# EAGLE library part COMEXPRESS_S (library etx-board)
ETX Express COM Express Device generated with split-gate-in-device-to-single-gates.ulp from C-5353652-36-3.dev at 04.12.08 14:01:30 with EAGLE Version 5.3.5 Copyright (c) 1988-2008 CadSoft Source: http://catalog.tycoelectronics.com .. ENG_CS_889092_0.5mm_FH_Conn_0906.pdf http://nordic.kontron.com/searchresult/?searchterm=etxe_designguide_v1.4.pdf
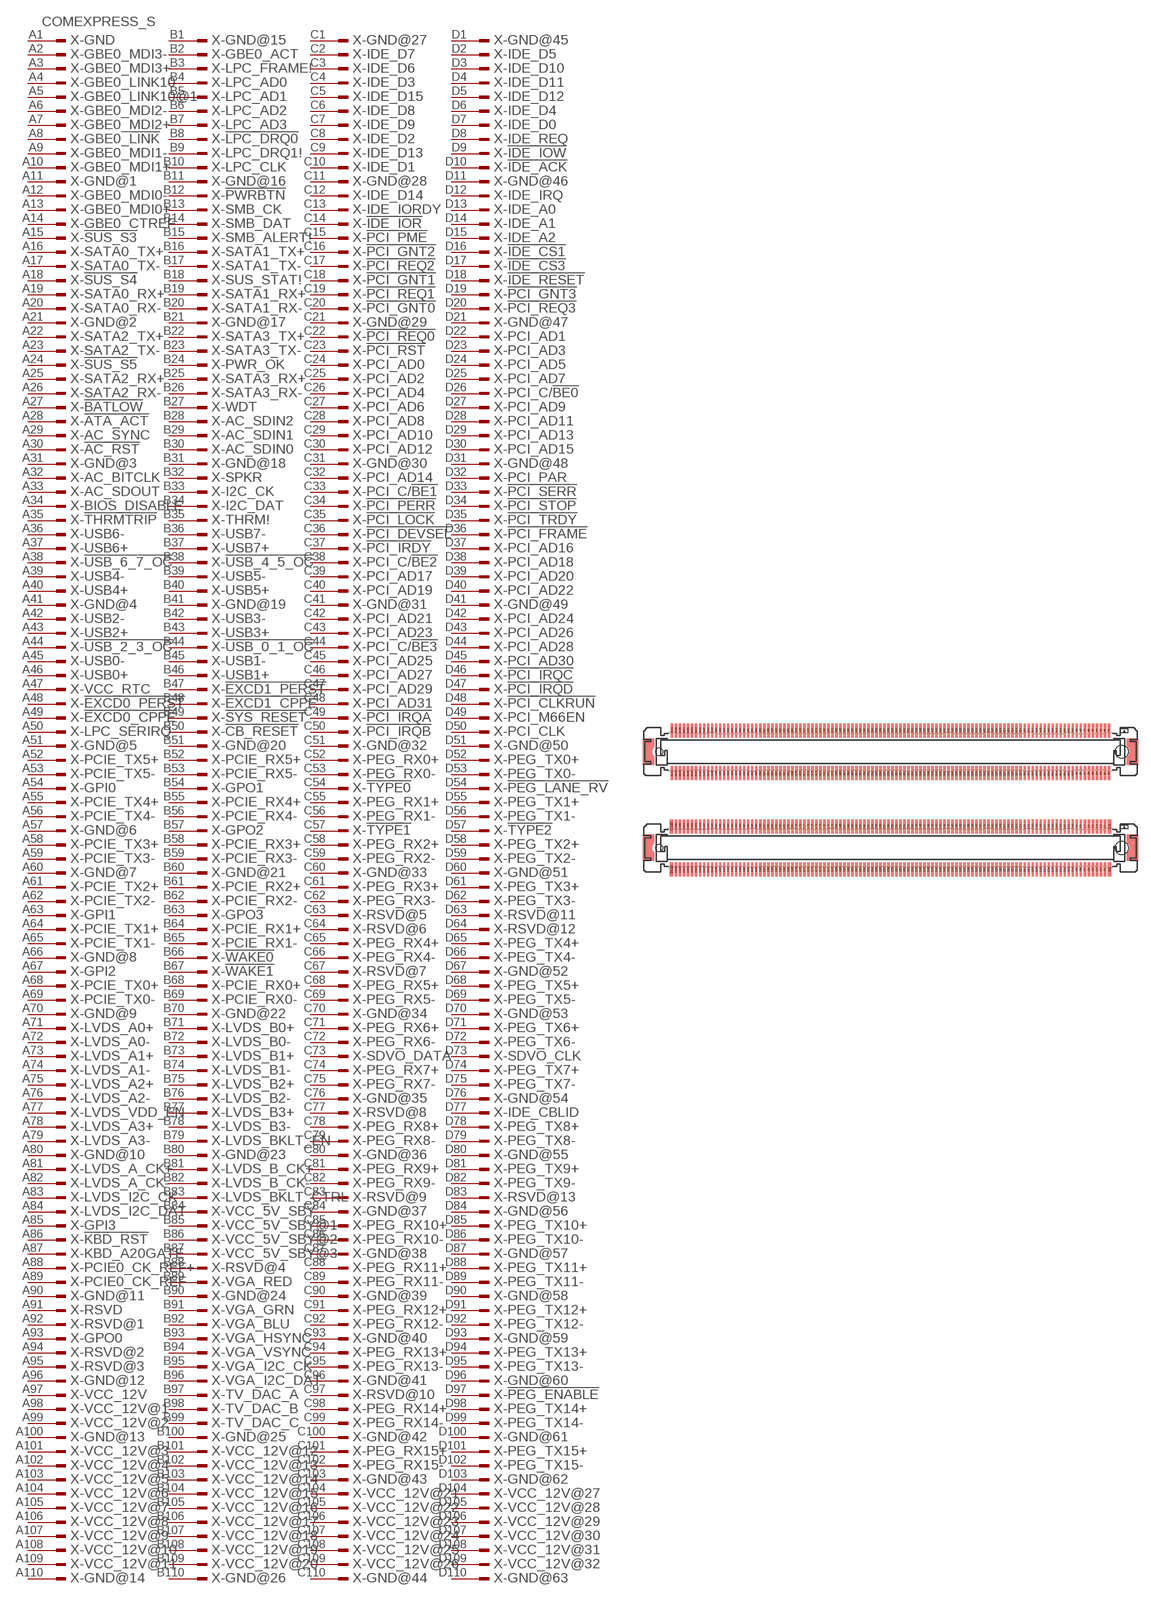
[diagram p6: symbol with the pads of C-5353652-36-3; footprint C-5353652-36-3]

Designator prefix X; gates -GND=1PIN_NAME_VALUE -GBE0_MDI3-=1PIN_NAME -GBE0_MDI3+=1PIN_NAME -GBE0_LINK10=1PIN_NAME -GBE0_LINK10@1=1PIN_NAME -GBE0_MDI2-=1PIN_NAME -GBE0_MDI2+=1PIN_NAME -GBE0_!LINK=1PIN_NAME -GBE0_MDI1-=1PIN_NAME -GBE0_MDI1+=1PIN_NAME -GND@1=1PIN_NAME -GBE0_MDI0-=1PIN_NAME -GBE0_MDI0+=1PIN_NAME -GBE0_CTREF=1PIN_NAME -!SUS_S3=1PIN_NAME -SATA0_TX+=1PIN_NAME -SATA0_TX-=1PIN_NAME -!SUS_S4=1PIN_NAME -SATA0_RX+=1PIN_NAME -SATA0_RX-=1PIN_NAME -GND@2=1PIN_NAME -SATA2_TX+=1PIN_NAME -SATA2_TX-=1PIN_NAME -!SUS_S5=1PIN_NAME -SATA2_RX+=1PIN_NAME -SATA2_RX-=1PIN_NAME -!BATLOW=1PIN_NAME -!ATA_ACT=1PIN_NAME -AC_SYNC=1PIN_NAME -!AC_RST=1PIN_NAME -GND@3=1PIN_NAME -AC_BITCLK=1PIN_NAME -AC_SDOUT=1PIN_NAME -BIOS_DISABLE=1PIN_NAME -!THRMTRIP=1PIN_NAME -USB6-=1PIN_NAME -USB6+=1PIN_NAME -!USB_6_7_OC=1PIN_NAME -USB4-=1PIN_NAME -USB4+=1PIN_NAME -GND@4=1PIN_NAME -USB2-=1PIN_NAME -USB2+=1PIN_NAME -!USB_2_3_OC=1PIN_NAME -USB0-=1PIN_NAME -USB0+=1PIN_NAME -VCC_RTC=1PIN_NAME -!EXCD0_PERST=1PIN_NAME -!EXCD0_CPPE=1PIN_NAME -LPC_SERIRQ=1PIN_NAME -GND@5=1PIN_NAME -PCIE_TX5+=1PIN_NAME -PCIE_TX5-=1PIN_NAME -GPI0=1PIN_NAME -PCIE_TX4+=1PIN_NAME -PCIE_TX4-=1PIN_NAME -GND@6=1PIN_NAME -PCIE_TX3+=1PIN_NAME -PCIE_TX3-=1PIN_NAME -GND@7=1PIN_NAME -PCIE_TX2+=1PIN_NAME -PCIE_TX2-=1PIN_NAME -GPI1=1PIN_NAME -PCIE_TX1+=1PIN_NAME -PCIE_TX1-=1PIN_NAME -GND@8=1PIN_NAME -GPI2=1PIN_NAME -PCIE_TX0+=1PIN_NAME -PCIE_TX0-=1PIN_NAME -GND@9=1PIN_NAME -LVDS_A0+=1PIN_NAME -LVDS_A0-=1PIN_NAME -LVDS_A1+=1PIN_NAME -LVDS_A1-=1PIN_NAME -LVDS_A2+=1PIN_NAME -LVDS_A2-=1PIN_NAME -LVDS_VDD_EN=1PIN_NAME -LVDS_A3+=1PIN_NAME -LVDS_A3-=1PIN_NAME -GND@10=1PIN_NAME -LVDS_A_CK+=1PIN_NAME -LVDS_A_CK-=1PIN_NAME -LVDS_I2C_CK=1PIN_NAME -LVDS_I2C_DAT=1PIN_NAME -GPI3=1PIN_NAME -!KBD_RST=1PIN_NAME -KBD_A20GATE=1PIN_NAME -PCIE0_CK_REF+=1PIN_NAME -PCIE0_CK_REF-=1PIN_NAME -GND@11=1PIN_NAME -RSVD=1PIN_NAME -RSVD@1=1PIN_NAME -GPO0=1PIN_NAME -RSVD@2=1PIN_NAME -RSVD@3=1PIN_NAME -GND@12=1PIN_NAME -VCC_12V=1PIN_NAME -VCC_12V@1=1PIN_NAME -VCC_12V@2=1PIN_NAME -GND@13=1PIN_NAME -VCC_12V@3=1PIN_NAME -VCC_12V@4=1PIN_NAME -VCC_12V@5=1PIN_NAME -VCC_12V@6=1PIN_NAME -VCC_12V@7=1PIN_NAME -VCC_12V@8=1PIN_NAME -VCC_12V@9=1PIN_NAME -VCC_12V@10=1PIN_NAME -VCC_12V@11=1PIN_NAME -GND@14=1PIN_NAME -GND@15=1PIN_NAME -GBE0_ACT=1PIN_NAME -LPC_FRAME!=1PIN_NAME -LPC_AD0=1PIN_NAME -LPC_AD1=1PIN_NAME -LPC_AD2=1PIN_NAME -LPC_AD3=1PIN_NAME -!LPC_DRQ0=1PIN_NAME -LPC_DRQ1!=1PIN_NAME -LPC_CLK=1PIN_NAME -GND@16=1PIN_NAME -!PWRBTN=1PIN_NAME -SMB_CK=1PIN_NAME -SMB_DAT=1PIN_NAME -SMB_ALERT!=1PIN_NAME -SATA1_TX+=1PIN_NAME -SATA1_TX-=1PIN_NAME -SUS_STAT!=1PIN_NAME -SATA1_RX+=1PIN_NAME -SATA1_RX-=1PIN_NAME -GND@17=1PIN_NAME -SATA3_TX+=1PIN_NAME -SATA3_TX-=1PIN_NAME -PWR_OK=1PIN_NAME -SATA3_RX+=1PIN_NAME -SATA3_RX-=1PIN_NAME -WDT=1PIN_NAME -AC_SDIN2=1PIN_NAME -AC_SDIN1=1PIN_NAME -AC_SDIN0=1PIN_NAME -GND@18=1PIN_NAME -SPKR=1PIN_NAME -I2C_CK=1PIN_NAME -I2C_DAT=1PIN_NAME -THRM!=1PIN_NAME -USB7-=1PIN_NAME -USB7+=1PIN_NAME -!USB_4_5_OC=1PIN_NAME -USB5-=1PIN_NAME -USB5+=1PIN_NAME -GND@19=1PIN_NAME -USB3-=1PIN_NAME -USB3+=1PIN_NAME -!USB_0_1_OC=1PIN_NAME -USB1-=1PIN_NAME -USB1+=1PIN_NAME -!EXCD1_PERST=1PIN_NAME -!EXCD1_CPPE=1PIN_NAME -!SYS_RESET=1PIN_NAME -!CB_RESET=1PIN_NAME -GND@20=1PIN_NAME -PCIE_RX5+=1PIN_NAME -PCIE_RX5-=1PIN_NAME -GPO1=1PIN_NAME -PCIE_RX4+=1PIN_NAME -PCIE_RX4-=1PIN_NAME -GPO2=1PIN_NAME -PCIE_RX3+=1PIN_NAME -PCIE_RX3-=1PIN_NAME -GND@21=1PIN_NAME -PCIE_RX2+=1PIN_NAME -PCIE_RX2-=1PIN_NAME -GPO3=1PIN_NAME -PCIE_RX1+=1PIN_NAME -PCIE_RX1-=1PIN_NAME -!WAKE0=1PIN_NAME -!WAKE1=1PIN_NAME -PCIE_RX0+=1PIN_NAME -PCIE_RX0-=1PIN_NAME -GND@22=1PIN_NAME -LVDS_B0+=1PIN_NAME -LVDS_B0-=1PIN_NAME -LVDS_B1+=1PIN_NAME -LVDS_B1-=1PIN_NAME -LVDS_B2+=1PIN_NAME -LVDS_B2-=1PIN_NAME -LVDS_B3+=1PIN_NAME -LVDS_B3-=1PIN_NAME -LVDS_BKLT_EN=1PIN_NAME -GND@23=1PIN_NAME -LVDS_B_CK+=1PIN_NAME -LVDS_B_CK-=1PIN_NAME -LVDS_BKLT_CTRL=1PIN_NAME -VCC_5V_SBY=1PIN_NAME -VCC_5V_SBY@1=1PIN_NAME -VCC_5V_SBY@2=1PIN_NAME -VCC_5V_SBY@3=1PIN_NAME -RSVD@4=1PIN_NAME -VGA_RED=1PIN_NAME -GND@24=1PIN_NAME -VGA_GRN=1PIN_NAME -VGA_BLU=1PIN_NAME -VGA_HSYNC=1PIN_NAME -VGA_VSYNC=1PIN_NAME -VGA_I2C_CK=1PIN_NAME -VGA_I2C_DAT=1PIN_NAME -TV_DAC_A=1PIN_NAME -TV_DAC_B=1PIN_NAME -TV_DAC_C=1PIN_NAME -GND@25=1PIN_NAME -VCC_12V@12=1PIN_NAME -VCC_12V@13=1PIN_NAME -VCC_12V@14=1PIN_NAME -VCC_12V@15=1PIN_NAME -VCC_12V@16=1PIN_NAME -VCC_12V@17=1PIN_NAME -VCC_12V@18=1PIN_NAME -VCC_12V@19=1PIN_NAME -VCC_12V@20=1PIN_NAME -GND@26=1PIN_NAME -GND@27=1PIN_NAME -IDE_D7=1PIN_NAME -IDE_D6=1PIN_NAME -IDE_D3=1PIN_NAME -IDE_D15=1PIN_NAME -IDE_D8=1PIN_NAME -IDE_D9=1PIN_NAME -IDE_D2=1PIN_NAME -IDE_D13=1PIN_NAME -IDE_D1=1PIN_NAME -GND@28=1PIN_NAME -IDE_D14=1PIN_NAME -IDE_IORDY=1PIN_NAME -!IDE_IOR=1PIN_NAME -!PCI_PME=1PIN_NAME -!PCI_GNT2=1PIN_NAME -!PCI_REQ2=1PIN_NAME -!PCI_GNT1=1PIN_NAME -!PCI_REQ1=1PIN_NAME -!PCI_GNT0=1PIN_NAME -GND@29=1PIN_NAME -!PCI_REQ0=1PIN_NAME -!PCI_RST=1PIN_NAME -PCI_AD0=1PIN_NAME -PCI_AD2=1PIN_NAME -PCI_AD4=1PIN_NAME -PCI_AD6=1PIN_NAME -PCI_AD8=1PIN_NAME -PCI_AD10=1PIN_NAME -PCI_AD12=1PIN_NAME -GND@30=1PIN_NAME -PCI_AD14=1PIN_NAME -PCI_C/!BE1=1PIN_NAME -!PCI_PERR=1PIN_NAME -!PCI_LOCK=1PIN_NAME -!PCI_DEVSEL=1PIN_NAME -!PCI_IRDY=1PIN_NAME -PCI_C/!BE2=1PIN_NAME -PCI_AD17=1PIN_NAME -PCI_AD19=1PIN_NAME -GND@31=1PIN_NAME -PCI_AD21=1PIN_NAME -PCI_AD23=1PIN_NAME -PCI_C/!BE3=1PIN_NAME -PCI_AD25=1PIN_NAME -PCI_AD27=1PIN_NAME -PCI_AD29=1PIN_NAME -PCI_AD31=1PIN_NAME -!PCI_IRQA=1PIN_NAME -!PCI_IRQB=1PIN_NAME -GND@32=1PIN_NAME -PEG_RX0+=1PIN_NAME -PEG_RX0-=1PIN_NAME -!TYPE0=1PIN_NAME -PEG_RX1+=1PIN_NAME -PEG_RX1-=1PIN_NAME -!TYPE1=1PIN_NAME -PEG_RX2+=1PIN_NAME -PEG_RX2-=1PIN_NAME -GND@33=1PIN_NAME -PEG_RX3+=1PIN_NAME -PEG_RX3-=1PIN_NAME -RSVD@5=1PIN_NAME -RSVD@6=1PIN_NAME -PEG_RX4+=1PIN_NAME -PEG_RX4-=1PIN_NAME -RSVD@7=1PIN_NAME -PEG_RX5+=1PIN_NAME -PEG_RX5-=1PIN_NAME -GND@34=1PIN_NAME -PEG_RX6+=1PIN_NAME -PEG_RX6-=1PIN_NAME -SDVO_DATA=1PIN_NAME -PEG_RX7+=1PIN_NAME -PEG_RX7-=1PIN_NAME -GND@35=1PIN_NAME -RSVD@8=1PIN_NAME -PEG_RX8+=1PIN_NAME -PEG_RX8-=1PIN_NAME -GND@36=1PIN_NAME -PEG_RX9+=1PIN_NAME -PEG_RX9-=1PIN_NAME -RSVD@9=1PIN_NAME -GND@37=1PIN_NAME -PEG_RX10+=1PIN_NAME -PEG_RX10-=1PIN_NAME -GND@38=1PIN_NAME -PEG_RX11+=1PIN_NAME -PEG_RX11-=1PIN_NAME -GND@39=1PIN_NAME -PEG_RX12+=1PIN_NAME -PEG_RX12-=1PIN_NAME -GND@40=1PIN_NAME -PEG_RX13+=1PIN_NAME -PEG_RX13-=1PIN_NAME -GND@41=1PIN_NAME -RSVD@10=1PIN_NAME -PEG_RX14+=1PIN_NAME -PEG_RX14-=1PIN_NAME -GND@42=1PIN_NAME -PEG_RX15+=1PIN_NAME -PEG_RX15-=1PIN_NAME -GND@43=1PIN_NAME -VCC_12V@21=1PIN_NAME -VCC_12V@22=1PIN_NAME -VCC_12V@23=1PIN_NAME -VCC_12V@24=1PIN_NAME -VCC_12V@25=1PIN_NAME -VCC_12V@26=1PIN_NAME -GND@44=1PIN_NAME -GND@45=1PIN_NAME -IDE_D5=1PIN_NAME -IDE_D10=1PIN_NAME -IDE_D11=1PIN_NAME -IDE_D12=1PIN_NAME -IDE_D4=1PIN_NAME -IDE_D0=1PIN_NAME -IDE_REQ=1PIN_NAME -!IDE_IOW=1PIN_NAME -!IDE_ACK=1PIN_NAME -GND@46=1PIN_NAME -IDE_IRQ=1PIN_NAME -IDE_A0=1PIN_NAME -IDE_A1=1PIN_NAME -IDE_A2=1PIN_NAME -!IDE_CS1=1PIN_NAME -!IDE_CS3=1PIN_NAME -!IDE_RESET=1PIN_NAME -!PCI_GNT3=1PIN_NAME -!PCI_REQ3=1PIN_NAME -GND@47=1PIN_NAME -PCI_AD1=1PIN_NAME -PCI_AD3=1PIN_NAME -PCI_AD5=1PIN_NAME -PCI_AD7=1PIN_NAME -PCI_C/!BE0=1PIN_NAME -PCI_AD9=1PIN_NAME -PCI_AD11=1PIN_NAME -PCI_AD13=1PIN_NAME -PCI_AD15=1PIN_NAME -GND@48=1PIN_NAME -PCI_PAR=1PIN_NAME -!PCI_SERR=1PIN_NAME -!PCI_STOP=1PIN_NAME -!PCI_TRDY=1PIN_NAME -!PCI_FRAME=1PIN_NAME -PCI_AD16=1PIN_NAME -PCI_AD18=1PIN_NAME -PCI_AD20=1PIN_NAME -PCI_AD22=1PIN_NAME -GND@49=1PIN_NAME -PCI_AD24=1PIN_NAME -PCI_AD26=1PIN_NAME -PCI_AD28=1PIN_NAME -PCI_AD30=1PIN_NAME -!PCI_IRQC=1PIN_NAME -!PCI_IRQD=1PIN_NAME -!PCI_CLKRUN=1PIN_NAME -PCI_M66EN=1PIN_NAME -PCI_CLK=1PIN_NAME -GND@50=1PIN_NAME -PEG_TX0+=1PIN_NAME -PEG_TX0-=1PIN_NAME -!PEG_LANE_RV=1PIN_NAME -PEG_TX1+=1PIN_NAME -PEG_TX1-=1PIN_NAME -!TYPE2=1PIN_NAME -PEG_TX2+=1PIN_NAME -PEG_TX2-=1PIN_NAME -GND@51=1PIN_NAME -PEG_TX3+=1PIN_NAME -PEG_TX3-=1PIN_NAME -RSVD@11=1PIN_NAME -RSVD@12=1PIN_NAME -PEG_TX4+=1PIN_NAME -PEG_TX4-=1PIN_NAME -GND@52=1PIN_NAME -PEG_TX5+=1PIN_NAME -PEG_TX5-=1PIN_NAME -GND@53=1PIN_NAME -PEG_TX6+=1PIN_NAME -PEG_TX6-=1PIN_NAME -SDVO_CLK=1PIN_NAME -PEG_TX7+=1PIN_NAME -PEG_TX7-=1PIN_NAME -GND@54=1PIN_NAME -IDE_CBLID=1PIN_NAME -PEG_TX8+=1PIN_NAME -PEG_TX8-=1PIN_NAME -GND@55=1PIN_NAME -PEG_TX9+=1PIN_NAME -PEG_TX9-=1PIN_NAME -RSVD@13=1PIN_NAME -GND@56=1PIN_NAME -PEG_TX10+=1PIN_NAME -PEG_TX10-=1PIN_NAME -GND@57=1PIN_NAME -PEG_TX11+=1PIN_NAME -PEG_TX11-=1PIN_NAME -GND@58=1PIN_NAME -PEG_TX12+=1PIN_NAME -PEG_TX12-=1PIN_NAME -GND@59=1PIN_NAME -PEG_TX13+=1PIN_NAME -PEG_TX13-=1PIN_NAME -GND@60=1PIN_NAME -!PEG_ENABLE=1PIN_NAME -PEG_TX14+=1PIN_NAME -PEG_TX14-=1PIN_NAME -GND@61=1PIN_NAME -PEG_TX15+=1PIN_NAME -PEG_TX15-=1PIN_NAME -GND@62=1PIN_NAME -VCC_12V@27=1PIN_NAME -VCC_12V@28=1PIN_NAME -VCC_12V@29=1PIN_NAME -VCC_12V@30=1PIN_NAME -VCC_12V@31=1PIN_NAME -VCC_12V@32=1PIN_NAME -GND@63=1PIN_NAME

## COMEXPRESS_S  [C-5353652-36-3]
A1  -GND:1  pas
A2  -GBE0_MDI3-:1  pas
A3  -GBE0_MDI3+:1  pas
A4  -GBE0_LINK10:1  pas
A5  -GBE0_LINK10@1:1  pas
A6  -GBE0_MDI2-:1  pas
A7  -GBE0_MDI2+:1  pas
A8  -GBE0_!LINK:1  pas
A9  -GBE0_MDI1-:1  pas
A10  -GBE0_MDI1+:1  pas
A11  -GND@1:1  pas
A12  -GBE0_MDI0-:1  pas
A13  -GBE0_MDI0+:1  pas
A14  -GBE0_CTREF:1  pas
A15  -!SUS_S3:1  pas
A16  -SATA0_TX+:1  pas
A17  -SATA0_TX-:1  pas
A18  -!SUS_S4:1  pas
A19  -SATA0_RX+:1  pas
A20  -SATA0_RX-:1  pas
A21  -GND@2:1  pas
A22  -SATA2_TX+:1  pas
A23  -SATA2_TX-:1  pas
A24  -!SUS_S5:1  pas
A25  -SATA2_RX+:1  pas
A26  -SATA2_RX-:1  pas
A27  -!BATLOW:1  pas
A28  -!ATA_ACT:1  pas
A29  -AC_SYNC:1  pas
A30  -!AC_RST:1  pas
A31  -GND@3:1  pas
A32  -AC_BITCLK:1  pas
A33  -AC_SDOUT:1  pas
A34  -BIOS_DISABLE:1  pas
A35  -!THRMTRIP:1  pas
A36  -USB6-:1  pas
A37  -USB6+:1  pas
A38  -!USB_6_7_OC:1  pas
A39  -USB4-:1  pas
A40  -USB4+:1  pas
A41  -GND@4:1  pas
A42  -USB2-:1  pas
A43  -USB2+:1  pas
A44  -!USB_2_3_OC:1  pas
A45  -USB0-:1  pas
A46  -USB0+:1  pas
A47  -VCC_RTC:1  pas
A48  -!EXCD0_PERST:1  pas
A49  -!EXCD0_CPPE:1  pas
A50  -LPC_SERIRQ:1  pas
A51  -GND@5:1  pas
A52  -PCIE_TX5+:1  pas
A53  -PCIE_TX5-:1  pas
A54  -GPI0:1  pas
A55  -PCIE_TX4+:1  pas
A56  -PCIE_TX4-:1  pas
A57  -GND@6:1  pas
A58  -PCIE_TX3+:1  pas
A59  -PCIE_TX3-:1  pas
A60  -GND@7:1  pas
A61  -PCIE_TX2+:1  pas
A62  -PCIE_TX2-:1  pas
A63  -GPI1:1  pas
A64  -PCIE_TX1+:1  pas
A65  -PCIE_TX1-:1  pas
A66  -GND@8:1  pas
A67  -GPI2:1  pas
A68  -PCIE_TX0+:1  pas
A69  -PCIE_TX0-:1  pas
A70  -GND@9:1  pas
A71  -LVDS_A0+:1  pas
A72  -LVDS_A0-:1  pas
A73  -LVDS_A1+:1  pas
A74  -LVDS_A1-:1  pas
A75  -LVDS_A2+:1  pas
A76  -LVDS_A2-:1  pas
A77  -LVDS_VDD_EN:1  pas
A78  -LVDS_A3+:1  pas
A79  -LVDS_A3-:1  pas
A80  -GND@10:1  pas
A81  -LVDS_A_CK+:1  pas
A82  -LVDS_A_CK-:1  pas
A83  -LVDS_I2C_CK:1  pas
A84  -LVDS_I2C_DAT:1  pas
A85  -GPI3:1  pas
A86  -!KBD_RST:1  pas
A87  -KBD_A20GATE:1  pas
A88  -PCIE0_CK_REF+:1  pas
A89  -PCIE0_CK_REF-:1  pas
A90  -GND@11:1  pas
A91  -RSVD:1  pas
A92  -RSVD@1:1  pas
A93  -GPO0:1  pas
A94  -RSVD@2:1  pas
A95  -RSVD@3:1  pas
A96  -GND@12:1  pas
A97  -VCC_12V:1  pas
A98  -VCC_12V@1:1  pas
A99  -VCC_12V@2:1  pas
A100  -GND@13:1  pas
A101  -VCC_12V@3:1  pas
A102  -VCC_12V@4:1  pas
A103  -VCC_12V@5:1  pas
A104  -VCC_12V@6:1  pas
A105  -VCC_12V@7:1  pas
A106  -VCC_12V@8:1  pas
A107  -VCC_12V@9:1  pas
A108  -VCC_12V@10:1  pas
A109  -VCC_12V@11:1  pas
A110  -GND@14:1  pas
B1  -GND@15:1  pas
B2  -GBE0_ACT:1  pas
B3  -LPC_FRAME!:1  pas
B4  -LPC_AD0:1  pas
B5  -LPC_AD1:1  pas
B6  -LPC_AD2:1  pas
B7  -LPC_AD3:1  pas
B8  -!LPC_DRQ0:1  pas
B9  -LPC_DRQ1!:1  pas
B10  -LPC_CLK:1  pas
B11  -GND@16:1  pas
B12  -!PWRBTN:1  pas
B13  -SMB_CK:1  pas
B14  -SMB_DAT:1  pas
B15  -SMB_ALERT!:1  pas
B16  -SATA1_TX+:1  pas
B17  -SATA1_TX-:1  pas
B18  -SUS_STAT!:1  pas
B19  -SATA1_RX+:1  pas
B20  -SATA1_RX-:1  pas
B21  -GND@17:1  pas
B22  -SATA3_TX+:1  pas
B23  -SATA3_TX-:1  pas
B24  -PWR_OK:1  pas
B25  -SATA3_RX+:1  pas
B26  -SATA3_RX-:1  pas
B27  -WDT:1  pas
B28  -AC_SDIN2:1  pas
B29  -AC_SDIN1:1  pas
B30  -AC_SDIN0:1  pas
B31  -GND@18:1  pas
B32  -SPKR:1  pas
B33  -I2C_CK:1  pas
B34  -I2C_DAT:1  pas
B35  -THRM!:1  pas
B36  -USB7-:1  pas
B37  -USB7+:1  pas
B38  -!USB_4_5_OC:1  pas
B39  -USB5-:1  pas
B40  -USB5+:1  pas
B41  -GND@19:1  pas
B42  -USB3-:1  pas
B43  -USB3+:1  pas
B44  -!USB_0_1_OC:1  pas
B45  -USB1-:1  pas
B46  -USB1+:1  pas
B47  -!EXCD1_PERST:1  pas
B48  -!EXCD1_CPPE:1  pas
B49  -!SYS_RESET:1  pas
B50  -!CB_RESET:1  pas
B51  -GND@20:1  pas
B52  -PCIE_RX5+:1  pas
B53  -PCIE_RX5-:1  pas
B54  -GPO1:1  pas
B55  -PCIE_RX4+:1  pas
B56  -PCIE_RX4-:1  pas
B57  -GPO2:1  pas
B58  -PCIE_RX3+:1  pas
B59  -PCIE_RX3-:1  pas
B60  -GND@21:1  pas
B61  -PCIE_RX2+:1  pas
B62  -PCIE_RX2-:1  pas
B63  -GPO3:1  pas
B64  -PCIE_RX1+:1  pas
B65  -PCIE_RX1-:1  pas
B66  -!WAKE0:1  pas
B67  -!WAKE1:1  pas
B68  -PCIE_RX0+:1  pas
B69  -PCIE_RX0-:1  pas
B70  -GND@22:1  pas
B71  -LVDS_B0+:1  pas
B72  -LVDS_B0-:1  pas
B73  -LVDS_B1+:1  pas
B74  -LVDS_B1-:1  pas
B75  -LVDS_B2+:1  pas
B76  -LVDS_B2-:1  pas
B77  -LVDS_B3+:1  pas
B78  -LVDS_B3-:1  pas
B79  -LVDS_BKLT_EN:1  pas
B80  -GND@23:1  pas
B81  -LVDS_B_CK+:1  pas
B82  -LVDS_B_CK-:1  pas
B83  -LVDS_BKLT_CTRL:1  pas
B84  -VCC_5V_SBY:1  pas
B85  -VCC_5V_SBY@1:1  pas
B86  -VCC_5V_SBY@2:1  pas
B87  -VCC_5V_SBY@3:1  pas
B88  -RSVD@4:1  pas
B89  -VGA_RED:1  pas
B90  -GND@24:1  pas
B91  -VGA_GRN:1  pas
B92  -VGA_BLU:1  pas
B93  -VGA_HSYNC:1  pas
B94  -VGA_VSYNC:1  pas
B95  -VGA_I2C_CK:1  pas
B96  -VGA_I2C_DAT:1  pas
B97  -TV_DAC_A:1  pas
B98  -TV_DAC_B:1  pas
B99  -TV_DAC_C:1  pas
B100  -GND@25:1  pas
B101  -VCC_12V@12:1  pas
B102  -VCC_12V@13:1  pas
B103  -VCC_12V@14:1  pas
B104  -VCC_12V@15:1  pas
B105  -VCC_12V@16:1  pas
B106  -VCC_12V@17:1  pas
B107  -VCC_12V@18:1  pas
B108  -VCC_12V@19:1  pas
B109  -VCC_12V@20:1  pas
B110  -GND@26:1  pas
C1  -GND@27:1  pas
C2  -IDE_D7:1  pas
C3  -IDE_D6:1  pas
C4  -IDE_D3:1  pas
C5  -IDE_D15:1  pas
C6  -IDE_D8:1  pas
C7  -IDE_D9:1  pas
C8  -IDE_D2:1  pas
C9  -IDE_D13:1  pas
C10  -IDE_D1:1  pas
C11  -GND@28:1  pas
C12  -IDE_D14:1  pas
C13  -IDE_IORDY:1  pas
C14  -!IDE_IOR:1  pas
C15  -!PCI_PME:1  pas
C16  -!PCI_GNT2:1  pas
C17  -!PCI_REQ2:1  pas
C18  -!PCI_GNT1:1  pas
C19  -!PCI_REQ1:1  pas
C20  -!PCI_GNT0:1  pas
C21  -GND@29:1  pas
C22  -!PCI_REQ0:1  pas
C23  -!PCI_RST:1  pas
C24  -PCI_AD0:1  pas
C25  -PCI_AD2:1  pas
C26  -PCI_AD4:1  pas
C27  -PCI_AD6:1  pas
C28  -PCI_AD8:1  pas
C29  -PCI_AD10:1  pas
C30  -PCI_AD12:1  pas
C31  -GND@30:1  pas
C32  -PCI_AD14:1  pas
C33  -PCI_C/!BE1:1  pas
C34  -!PCI_PERR:1  pas
C35  -!PCI_LOCK:1  pas
C36  -!PCI_DEVSEL:1  pas
C37  -!PCI_IRDY:1  pas
C38  -PCI_C/!BE2:1  pas
C39  -PCI_AD17:1  pas
C40  -PCI_AD19:1  pas
C41  -GND@31:1  pas
C42  -PCI_AD21:1  pas
C43  -PCI_AD23:1  pas
C44  -PCI_C/!BE3:1  pas
C45  -PCI_AD25:1  pas
C46  -PCI_AD27:1  pas
C47  -PCI_AD29:1  pas
C48  -PCI_AD31:1  pas
C49  -!PCI_IRQA:1  pas
C50  -!PCI_IRQB:1  pas
C51  -GND@32:1  pas
C52  -PEG_RX0+:1  pas
C53  -PEG_RX0-:1  pas
C54  -!TYPE0:1  pas
C55  -PEG_RX1+:1  pas
C56  -PEG_RX1-:1  pas
C57  -!TYPE1:1  pas
C58  -PEG_RX2+:1  pas
C59  -PEG_RX2-:1  pas
C60  -GND@33:1  pas
C61  -PEG_RX3+:1  pas
C62  -PEG_RX3-:1  pas
C63  -RSVD@5:1  pas
C64  -RSVD@6:1  pas
C65  -PEG_RX4+:1  pas
C66  -PEG_RX4-:1  pas
C67  -RSVD@7:1  pas
C68  -PEG_RX5+:1  pas
C69  -PEG_RX5-:1  pas
C70  -GND@34:1  pas
C71  -PEG_RX6+:1  pas
C72  -PEG_RX6-:1  pas
C73  -SDVO_DATA:1  pas
C74  -PEG_RX7+:1  pas
C75  -PEG_RX7-:1  pas
C76  -GND@35:1  pas
C77  -RSVD@8:1  pas
C78  -PEG_RX8+:1  pas
C79  -PEG_RX8-:1  pas
C80  -GND@36:1  pas
C81  -PEG_RX9+:1  pas
C82  -PEG_RX9-:1  pas
C83  -RSVD@9:1  pas
C84  -GND@37:1  pas
C85  -PEG_RX10+:1  pas
C86  -PEG_RX10-:1  pas
C87  -GND@38:1  pas
C88  -PEG_RX11+:1  pas
C89  -PEG_RX11-:1  pas
C90  -GND@39:1  pas
C91  -PEG_RX12+:1  pas
C92  -PEG_RX12-:1  pas
C93  -GND@40:1  pas
C94  -PEG_RX13+:1  pas
C95  -PEG_RX13-:1  pas
C96  -GND@41:1  pas
C97  -RSVD@10:1  pas
C98  -PEG_RX14+:1  pas
C99  -PEG_RX14-:1  pas
C100  -GND@42:1  pas
C101  -PEG_RX15+:1  pas
C102  -PEG_RX15-:1  pas
C103  -GND@43:1  pas
C104  -VCC_12V@21:1  pas
C105  -VCC_12V@22:1  pas
C106  -VCC_12V@23:1  pas
C107  -VCC_12V@24:1  pas
C108  -VCC_12V@25:1  pas
C109  -VCC_12V@26:1  pas
C110  -GND@44:1  pas
D1  -GND@45:1  pas
D2  -IDE_D5:1  pas
D3  -IDE_D10:1  pas
D4  -IDE_D11:1  pas
D5  -IDE_D12:1  pas
D6  -IDE_D4:1  pas
D7  -IDE_D0:1  pas
D8  -IDE_REQ:1  pas
D9  -!IDE_IOW:1  pas
D10  -!IDE_ACK:1  pas
D11  -GND@46:1  pas
D12  -IDE_IRQ:1  pas
D13  -IDE_A0:1  pas
D14  -IDE_A1:1  pas
D15  -IDE_A2:1  pas
D16  -!IDE_CS1:1  pas
D17  -!IDE_CS3:1  pas
D18  -!IDE_RESET:1  pas
D19  -!PCI_GNT3:1  pas
D20  -!PCI_REQ3:1  pas
D21  -GND@47:1  pas
D22  -PCI_AD1:1  pas
D23  -PCI_AD3:1  pas
D24  -PCI_AD5:1  pas
D25  -PCI_AD7:1  pas
D26  -PCI_C/!BE0:1  pas
D27  -PCI_AD9:1  pas
D28  -PCI_AD11:1  pas
D29  -PCI_AD13:1  pas
D30  -PCI_AD15:1  pas
D31  -GND@48:1  pas
D32  -PCI_PAR:1  pas
D33  -!PCI_SERR:1  pas
D34  -!PCI_STOP:1  pas
D35  -!PCI_TRDY:1  pas
D36  -!PCI_FRAME:1  pas
D37  -PCI_AD16:1  pas
D38  -PCI_AD18:1  pas
D39  -PCI_AD20:1  pas
D40  -PCI_AD22:1  pas
D41  -GND@49:1  pas
D42  -PCI_AD24:1  pas
D43  -PCI_AD26:1  pas
D44  -PCI_AD28:1  pas
D45  -PCI_AD30:1  pas
D46  -!PCI_IRQC:1  pas
D47  -!PCI_IRQD:1  pas
D48  -!PCI_CLKRUN:1  pas
D49  -PCI_M66EN:1  pas
D50  -PCI_CLK:1  pas
D51  -GND@50:1  pas
D52  -PEG_TX0+:1  pas
D53  -PEG_TX0-:1  pas
D54  -!PEG_LANE_RV:1  pas
D55  -PEG_TX1+:1  pas
D56  -PEG_TX1-:1  pas
D57  -!TYPE2:1  pas
D58  -PEG_TX2+:1  pas
D59  -PEG_TX2-:1  pas
D60  -GND@51:1  pas
D61  -PEG_TX3+:1  pas
D62  -PEG_TX3-:1  pas
D63  -RSVD@11:1  pas
D64  -RSVD@12:1  pas
D65  -PEG_TX4+:1  pas
D66  -PEG_TX4-:1  pas
D67  -GND@52:1  pas
D68  -PEG_TX5+:1  pas
D69  -PEG_TX5-:1  pas
D70  -GND@53:1  pas
D71  -PEG_TX6+:1  pas
D72  -PEG_TX6-:1  pas
D73  -SDVO_CLK:1  pas
D74  -PEG_TX7+:1  pas
D75  -PEG_TX7-:1  pas
D76  -GND@54:1  pas
D77  -IDE_CBLID:1  pas
D78  -PEG_TX8+:1  pas
D79  -PEG_TX8-:1  pas
D80  -GND@55:1  pas
D81  -PEG_TX9+:1  pas
D82  -PEG_TX9-:1  pas
D83  -RSVD@13:1  pas
D84  -GND@56:1  pas
D85  -PEG_TX10+:1  pas
D86  -PEG_TX10-:1  pas
D87  -GND@57:1  pas
D88  -PEG_TX11+:1  pas
D89  -PEG_TX11-:1  pas
D90  -GND@58:1  pas
D91  -PEG_TX12+:1  pas
D92  -PEG_TX12-:1  pas
D93  -GND@59:1  pas
D94  -PEG_TX13+:1  pas
D95  -PEG_TX13-:1  pas
D96  -GND@60:1  pas
D97  -!PEG_ENABLE:1  pas
D98  -PEG_TX14+:1  pas
D99  -PEG_TX14-:1  pas
D100  -GND@61:1  pas
D101  -PEG_TX15+:1  pas
D102  -PEG_TX15-:1  pas
D103  -GND@62:1  pas
D104  -VCC_12V@27:1  pas
D105  -VCC_12V@28:1  pas
D106  -VCC_12V@29:1  pas
D107  -VCC_12V@30:1  pas
D108  -VCC_12V@31:1  pas
D109  -VCC_12V@32:1  pas
D110  -GND@63:1  pas

## Footprint C-5353652-36-3 (pad centres in mm)
ComExpress (ETXexpress) Source: http://catalog.tycoelectronics.com .. ENG_CS_889092_0.5mm_FH_Conn_0906.pdf
smd 0.3 x 1.75: A1 27.25,8.675; A2 26.75,8.675; A3 26.25,8.675; A4 25.75,8.675; A5 25.25,8.675; A6 24.75,8.675; A7 24.25,8.675; A8 23.75,8.675; A9 23.25,8.675; A10 22.75,8.675; A11 22.25,8.675; A12 21.75,8.675; A13 21.25,8.675; A14 20.75,8.675; A15 20.25,8.675; A16 19.75,8.675; A17 19.25,8.675; A18 18.75,8.675; A19 18.25,8.675; A20 17.75,8.675; A21 17.25,8.675; A22 16.75,8.675; A23 16.25,8.675; A24 15.75,8.675; A25 15.25,8.675; A26 14.75,8.675; A27 14.25,8.675; A28 13.75,8.675; A29 13.25,8.675; A30 12.75,8.675; A31 12.25,8.675; A32 11.75,8.675; A33 11.25,8.675; A34 10.75,8.675; A35 10.25,8.675; A36 9.75,8.675; A37 9.25,8.675; A38 8.75,8.675; A39 8.25,8.675; A40 7.75,8.675; A41 7.25,8.675; A42 6.75,8.675; A43 6.25,8.675; A44 5.75,8.675; A45 5.25,8.675; A46 4.75,8.675; A47 4.25,8.675; A48 3.75,8.675; A49 3.25,8.675; A50 2.75,8.675; A51 2.25,8.675; A52 1.75,8.675; A53 1.25,8.675; A54 0.75,8.675; A55 0.25,8.675; A56 -0.25,8.675; A57 -0.75,8.675; A58 -1.25,8.675; A59 -1.75,8.675; A60 -2.25,8.675; A61 -2.75,8.675; A62 -3.25,8.675; A63 -3.75,8.675; A64 -4.25,8.675; A65 -4.75,8.675; A66 -5.25,8.675; A67 -5.75,8.675; A68 -6.25,8.675; A69 -6.75,8.675; A70 -7.25,8.675; A71 -7.75,8.675; A72 -8.25,8.675; A73 -8.75,8.675; A74 -9.25,8.675; A75 -9.75,8.675; A76 -10.25,8.675; A77 -10.75,8.675; A78 -11.25,8.675; A79 -11.75,8.675; A80 -12.25,8.675; A81 -12.75,8.675; A82 -13.25,8.675; A83 -13.75,8.675; A84 -14.25,8.675; A85 -14.75,8.675; A86 -15.25,8.675; A87 -15.75,8.675; A88 -16.25,8.675; A89 -16.75,8.675; A90 -17.25,8.675; A91 -17.75,8.675; A92 -18.25,8.675; A93 -18.75,8.675; A94 -19.25,8.675; A95 -19.75,8.675; A96 -20.25,8.675; A97 -20.75,8.675; A98 -21.25,8.675; A99 -21.75,8.675; A100 -22.25,8.675; A101 -22.75,8.675; A102 -23.25,8.675; A103 -23.75,8.675; A104 -24.25,8.675; A105 -24.75,8.675; A106 -25.25,8.675; A107 -25.75,8.675; A108 -26.25,8.675; A109 -26.75,8.675; A110 -27.25,8.675; B1 27.25,3.325; B2 26.75,3.325; B3 26.25,3.325; B4 25.75,3.325; B5 25.25,3.325; B6 24.75,3.325; B7 24.25,3.325; B8 23.75,3.325; B9 23.25,3.325; B10 22.75,3.325; B11 22.25,3.325; B12 21.75,3.325; B13 21.25,3.325; B14 20.75,3.325; B15 20.25,3.325; B16 19.75,3.325; B17 19.25,3.325; B18 18.75,3.325; B19 18.25,3.325; B20 17.75,3.325; B21 17.25,3.325; B22 16.75,3.325; B23 16.25,3.325; B24 15.75,3.325; B25 15.25,3.325; B26 14.75,3.325; B27 14.25,3.325; B28 13.75,3.325; B29 13.25,3.325; B30 12.75,3.325; B31 12.25,3.325; B32 11.75,3.325; B33 11.25,3.325; B34 10.75,3.325; B35 10.25,3.325; B36 9.75,3.325; B37 9.25,3.325; B38 8.75,3.325; B39 8.25,3.325; B40 7.75,3.325; B41 7.25,3.325; B42 6.75,3.325; B43 6.25,3.325; B44 5.75,3.325; B45 5.25,3.325; B46 4.75,3.325; B47 4.25,3.325; B48 3.75,3.325; B49 3.25,3.325; B50 2.75,3.325; B51 2.25,3.325; B52 1.75,3.325; B53 1.25,3.325; B54 0.75,3.325; B55 0.25,3.325; B56 -0.25,3.325; B57 -0.75,3.325; B58 -1.25,3.325; B59 -1.75,3.325; B60 -2.25,3.325; B61 -2.75,3.325; B62 -3.25,3.325; B63 -3.75,3.325; B64 -4.25,3.325; B65 -4.75,3.325; B66 -5.25,3.325; B67 -5.75,3.325; B68 -6.25,3.325; B69 -6.75,3.325; B70 -7.25,3.325; B71 -7.75,3.325; B72 -8.25,3.325; B73 -8.75,3.325; B74 -9.25,3.325; B75 -9.75,3.325; B76 -10.25,3.325; B77 -10.75,3.325; B78 -11.25,3.325; B79 -11.75,3.325; B80 -12.25,3.325; B81 -12.75,3.325; B82 -13.25,3.325; B83 -13.75,3.325; B84 -14.25,3.325; B85 -14.75,3.325; B86 -15.25,3.325; B87 -15.75,3.325; B88 -16.25,3.325; B89 -16.75,3.325; B90 -17.25,3.325; B91 -17.75,3.325; B92 -18.25,3.325; B93 -18.75,3.325; B94 -19.25,3.325; B95 -19.75,3.325; B96 -20.25,3.325; B97 -20.75,3.325; B98 -21.25,3.325; B99 -21.75,3.325; B100 -22.25,3.325; B101 -22.75,3.325; B102 -23.25,3.325; B103 -23.75,3.325; B104 -24.25,3.325; B105 -24.75,3.325; B106 -25.25,3.325; B107 -25.75,3.325; B108 -26.25,3.325; B109 -26.75,3.325; B110 -27.25,3.325; C2 26.75,-3.325; C3 26.25,-3.325; C4 25.75,-3.325; C5 25.25,-3.325; C6 24.75,-3.325; C7 24.25,-3.325; C8 23.75,-3.325; C9 23.25,-3.325; C10 22.75,-3.325; C11 22.25,-3.325; C12 21.75,-3.325; C13 21.25,-3.325; C14 20.75,-3.325; C15 20.25,-3.325; C16 19.75,-3.325; C17 19.25,-3.325; C18 18.75,-3.325; C19 18.25,-3.325; C20 17.75,-3.325; C21 17.25,-3.325; C22 16.75,-3.325; C23 16.25,-3.325; C24 15.75,-3.325; C25 15.25,-3.325; C26 14.75,-3.325; C27 14.25,-3.325; C28 13.75,-3.325; C29 13.25,-3.325; C30 12.75,-3.325; C31 12.25,-3.325; C32 11.75,-3.325; C33 11.25,-3.325; C34 10.75,-3.325; C35 10.25,-3.325; C36 9.75,-3.325; C37 9.25,-3.325; C38 8.75,-3.325; C39 8.25,-3.325; C40 7.75,-3.325; C41 7.25,-3.325; C42 6.75,-3.325; C43 6.25,-3.325; C44 5.75,-3.325; C45 5.25,-3.325; C46 4.75,-3.325; C47 4.25,-3.325; C48 3.75,-3.325; C49 3.25,-3.325; C50 2.75,-3.325; C51 2.25,-3.325; C52 1.75,-3.325; C53 1.25,-3.325; C54 0.75,-3.325; C55 0.25,-3.325; C56 -0.25,-3.325; C57 -0.75,-3.325; C58 -1.25,-3.325; C59 -1.75,-3.325; C60 -2.25,-3.325; C61 -2.75,-3.325; C62 -3.25,-3.325; C63 -3.75,-3.325; C64 -4.25,-3.325; C65 -4.75,-3.325; C66 -5.25,-3.325; C67 -5.75,-3.325; C68 -6.25,-3.325; C69 -6.75,-3.325; C70 -7.25,-3.325; C71 -7.75,-3.325; C72 -8.25,-3.325; C73 -8.75,-3.325; C74 -9.25,-3.325; C75 -9.75,-3.325; C76 -10.25,-3.325; C77 -10.75,-3.325; C78 -11.25,-3.325; C79 -11.75,-3.325; C80 -12.25,-3.325; C81 -12.75,-3.325; C82 -13.25,-3.325; C83 -13.75,-3.325; C84 -14.25,-3.325; C85 -14.75,-3.325; C86 -15.25,-3.325; C87 -15.75,-3.325; C88 -16.25,-3.325; C89 -16.75,-3.325; C90 -17.25,-3.325; C91 -17.75,-3.325; C92 -18.25,-3.325; C93 -18.75,-3.325; C94 -19.25,-3.325; C95 -19.75,-3.325; C96 -20.25,-3.325; C97 -20.75,-3.325; C98 -21.25,-3.325; C99 -21.75,-3.325; C100 -22.25,-3.325; C101 -22.75,-3.325; C102 -23.25,-3.325; C103 -23.75,-3.325; C104 -24.25,-3.325; C105 -24.75,-3.325; C106 -25.25,-3.325; C107 -25.75,-3.325; C108 -26.25,-3.325; C109 -26.75,-3.325; D2 26.75,-8.675; D3 26.25,-8.675; D4 25.75,-8.675; D5 25.25,-8.675; D6 24.75,-8.675; D7 24.25,-8.675; D8 23.75,-8.675; D9 23.25,-8.675; D10 22.75,-8.675; D11 22.25,-8.675; D12 21.75,-8.675; D13 21.25,-8.675; D14 20.75,-8.675; D15 20.25,-8.675; D16 19.75,-8.675; D17 19.25,-8.675; D18 18.75,-8.675; D19 18.25,-8.675; D20 17.75,-8.675; D21 17.25,-8.675; D22 16.75,-8.675; D23 16.25,-8.675; D24 15.75,-8.675; D25 15.25,-8.675; D26 14.75,-8.675; D27 14.25,-8.675; D28 13.75,-8.675; D29 13.25,-8.675; D30 12.75,-8.675; D31 12.25,-8.675; D32 11.75,-8.675; D33 11.25,-8.675; D34 10.75,-8.675; D35 10.25,-8.675; D36 9.75,-8.675; D37 9.25,-8.675; D38 8.75,-8.675; D39 8.25,-8.675; D40 7.75,-8.675; D41 7.25,-8.675; D42 6.75,-8.675; D43 6.25,-8.675; D44 5.75,-8.675; D45 5.25,-8.675; D46 4.75,-8.675; D47 4.25,-8.675; D48 3.75,-8.675; D49 3.25,-8.675; D50 2.75,-8.675; D51 2.25,-8.675; D52 1.75,-8.675; D53 1.25,-8.675; D54 0.75,-8.675; D55 0.25,-8.675; D56 -0.25,-8.675; D57 -0.75,-8.675; D58 -1.25,-8.675; D59 -1.75,-8.675; D60 -2.25,-8.675; D61 -2.75,-8.675; D62 -3.25,-8.675; D63 -3.75,-8.675; D64 -4.25,-8.675; D65 -4.75,-8.675; D66 -5.25,-8.675; D67 -5.75,-8.675; D68 -6.25,-8.675; D69 -6.75,-8.675; D70 -7.25,-8.675; D71 -7.75,-8.675; D72 -8.25,-8.675; D73 -8.75,-8.675; D74 -9.25,-8.675; D75 -9.75,-8.675; D76 -10.25,-8.675; D77 -10.75,-8.675; D78 -11.25,-8.675; D79 -11.75,-8.675; D80 -12.25,-8.675; D81 -12.75,-8.675; D82 -13.25,-8.675; D83 -13.75,-8.675; D84 -14.25,-8.675; D85 -14.75,-8.675; D86 -15.25,-8.675; D87 -15.75,-8.675; D88 -16.25,-8.675; D89 -16.75,-8.675; D90 -17.25,-8.675; D91 -17.75,-8.675; D92 -18.25,-8.675; D93 -18.75,-8.675; D94 -19.25,-8.675; D95 -19.75,-8.675; D96 -20.25,-8.675; D97 -20.75,-8.675; D98 -21.25,-8.675; D99 -21.75,-8.675; D100 -22.25,-8.675; D101 -22.75,-8.675; D102 -23.25,-8.675; D103 -23.75,-8.675; D104 -24.25,-8.675; D105 -24.75,-8.675; D106 -25.25,-8.675; D107 -25.75,-8.675; D108 -26.25,-8.675; D109 -26.75,-8.675
smd 0.45 x 1.75: C1 27.325,-3.325; C110 -27.325,-3.325; D1 27.325,-8.675; D110 -27.325,-8.675
hole 0.9 at -28.85,-6
hole 1.6 at 28.85,-6
hole 0.9 at -28.85,6
hole 1.6 at 28.85,6
hole 0.9 at -28.85,-6
hole 1.6 at 28.85,-6